# Altium schematic symbol library Power.SchLib: 1 symbol
Pins are listed as number, name and electrical type; pins without a type are passive.

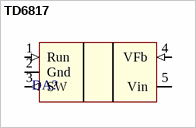
[diagram p0: symbol TD6817]

## TD6817
designator DA?  (value not drawn)
footprint SOT95P290X100-5N (SOT23, 5-Leads, Body 2,90x2,90mm, Pitch 0,95mm, IPC Medium Density)
pins: 1 Run (in), 2 Gnd (power), 3 SW (out), 4 VFb (in), 5 Vin (power)